# EAGLE library part NCS199A2RSQT2G (library NCS199A2RSQT2G)
CURRENT SENSE AMP G=100 Source: Datasheet <http://www.onsemi.com/pub/Collateral/NCS199A1R-D.PDF>
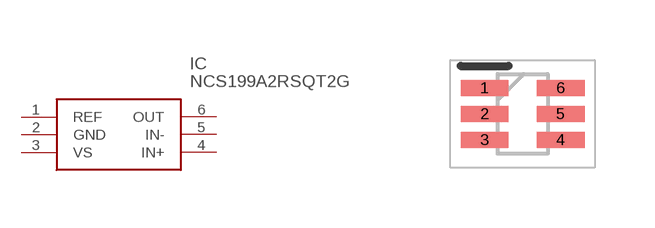
[diagram p0: symbol with the pads of SOT65P210X110-6N; footprint SOT65P210X110-6N]

Designator prefix IC

## NCS199A2RSQT2G (Description: CURRENT SENSE AMP G=100; Height: 1.1mm; Manufacturer_Name: onsemi; Manufacturer_Part_Number: NCS199A2RSQT2G; Mouser_Part_Number: 863-NCS199A2RSQT2G; Mouser_Price-Stock: https://www.mouser.co.uk/ProductDetail/onsemi/NCS199A2RSQT2G?qs=MLItCLRbWswy48vDwGmPrw%3D%3D)  [SOT65P210X110-6N]
1  REF
2  GND
3  VS
4  IN+
5  IN-
6  OUT

## Footprint SOT65P210X110-6N (pad centres in mm)
SC-70
smd 1.2 x 0.4: 1 -0.95,0.65; 2 -0.95,0; 3 -0.95,-0.65; 4 0.95,-0.65; 5 0.95,0; 6 0.95,0.65